# Altium footprint library 2020-09-03_20-14-04.PcbLib: 3 footprints
Each footprint in its own frame and in the unit in brackets; x right, y up, seen from the top. Pads: shape width x height; smd on the part's side, far side on the other; paste and mask are expansions set on the pad; w line width, h text height; cw(c..) or ccw(c..) is an arc to the next point about the centre after c.
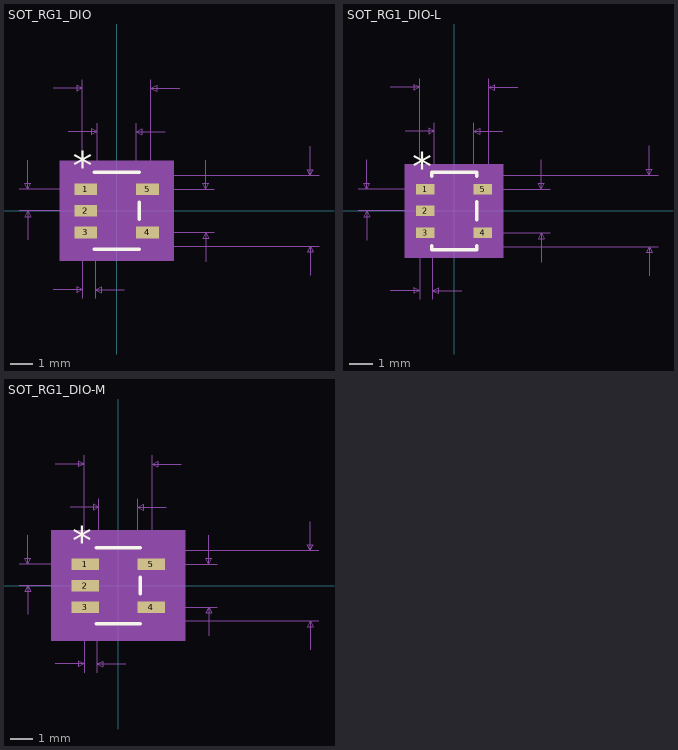
[diagram p0: the footprints below, top view; thin cyan lines are the x and y axes]

## SOT_RG1_DIO [mil]
pads (5):
  rect 39.5x20 smd paste+0 mask+0: 1(-53.25,37.4) 2(-53.25,0) 3(-53.25,-37.4) 4(53.25,-37.4) 5(53.25,37.4)
Top Overlay:
  lines w6: -38.5,-66 38.5,-66 ; -38.5,66 38.5,66 ; 38.5,-14.3 38.5,14.3
  text "*" at -75.75,52.4 h50
Mechanical 5:
  region: 98,-86 -98,-86 -98,86 98,86
Mechanical 7:
  lines w1: -168.25,0 -53.25,0 ; -168.25,37.4 -53.25,37.4 ; -153.25,-50 -153.25,0 ; -153.25,87.4 -153.25,37.4 ; -109,-136 -59,-136 ; -109,211 -59,211 ; -83.5,136 -33.5,136 ; -59,-151 -59,0 -59,226 ; -37,-151 -37,0 ; -33.5,0 -33.5,151 ; 0,-61 348.5,-61 ; 0,61 348.5,61 ; 13,-136 -37,-136 ; 33.5,0 33.5,151 ; 53.25,-37.4 168.25,-37.4 ; 53.25,37.4 168.25,37.4 ; 59,0 59,226 ; 83.5,136 33.5,136 ; 109,211 59,211 ; 153.25,-87.4 153.25,-37.4 ; 153.25,87.4 153.25,37.4 ; 333.5,-111 333.5,-61 ; 333.5,111 333.5,61 ; -153.25,0 -158.25,-10 -148.25,-10 -153.25,0 ; -153.25,37.4 -158.25,47.4 -148.25,47.4 -153.25,37.4 ; -59,-136 -69,-131 -69,-141 -59,-136 ; -59,211 -69,216 -69,206 -59,211 ; -37,-136 -27,-131 -27,-141 -37,-136 ; -33.5,136 -43.5,141 -43.5,131 -33.5,136 ; 33.5,136 43.5,141 43.5,131 33.5,136 ; 59,211 69,216 69,206 59,211 ; 153.25,-37.4 148.25,-47.4 158.25,-47.4 153.25,-37.4 ; 153.25,37.4 148.25,47.4 158.25,47.4 153.25,37.4 ; 333.5,-61 328.5,-71 338.5,-71 333.5,-61 ; 333.5,61 328.5,71 338.5,71 333.5,61
  text "Pin One Padstyle: RX39p5Y20D0T" at -375,-321 h50
  text "Default Padstyle: RX39p5Y20D0T" at -375,-261 h50
  text "Alt 1 Padstyle: OX60Y90D30P" at -337.5,-501 h50
  text "Alt 2 Padstyle: OX90Y60D30P" at -337.5,-561 h50
  text "0.067in/1.702mm" at -93.75,156 h25
  text "0.118in/2.997mm" at -93.75,231 h25
  text "0.122in/3.099mm" at 353.5,-12.5 h25
  text "0.037in/0.95mm" at -348.25,6.2 h25
  text "0.075in/1.9mm" at 173.25,-12.5 h25
  text "0.022in/0.559mm" at -141.75,-181 h25
Mechanical 13:
  lines w0: -12,61 ccw(c0,61) 12,61
  lines w1: -59,-47.4 -59,-27.4 -33.5,-27.4 -33.5,-47.4 -59,-47.4 ; -59,-10 -59,10 -33.5,10 -33.5,-10 -59,-10 ; -59,27.4 -59,47.4 -33.5,47.4 -33.5,27.4 -59,27.4 ; -33.5,-61 33.5,-61 33.5,61 -33.5,61 -33.5,-61 ; 33.5,-47.4 33.5,-27.4 59,-27.4 59,-47.4 33.5,-47.4 ; 33.5,27.4 33.5,47.4 59,47.4 59,27.4 33.5,27.4
  text "*" at -36,9.4 h50
Mechanical 15:
  region: 43.5,-71 -43.5,-71 -43.5,-52.4 -79,-52.4 -79,52.4 -43.5,52.4 -43.5,71 43.5,71 43.5,52.4 79,52.4 79,-52.4 43.5,-52.4
  lines w6: -79,-52.4 -43.5,-52.4 -43.5,-71 43.5,-71 43.5,-52.4 79,-52.4 79,52.4 43.5,52.4 43.5,71 -43.5,71 -43.5,52.4 -79,52.4 -79,-52.4
3D body: height 10, standoff 0, extent 0,0 10,10

## SOT_RG1_DIO-L [mil]
pads (5):
  rect 31.5x18 smd paste+0 mask+0: 1(-49.25,37.4) 2(-49.25,0) 3(-49.25,-37.4) 4(49.25,-37.4) 5(49.25,37.4)
Top Overlay:
  lines w6: -38.5,-59.5 -38.5,-66 38.5,-66 38.5,-59.5 ; -38.5,59.5 -38.5,66 38.5,66 38.5,59.5 ; 38.5,-15.3 38.5,15.3
  text "*" at -71.75,50.4 h50
Mechanical 5:
  region: 84,-80 -84,-80 -84,80 84,80
Mechanical 7:
  lines w1: -164.25,0 -49.25,0 ; -164.25,37.4 -49.25,37.4 ; -149.25,-50 -149.25,0 ; -149.25,87.4 -149.25,37.4 ; -109,-136 -59,-136 ; -109,211 -59,211 ; -83.5,136 -33.5,136 ; -59,-151 -59,0 -59,226 ; -37,-151 -37,0 ; -33.5,0 -33.5,151 ; 0,-61 348.5,-61 ; 0,61 348.5,61 ; 13,-136 -37,-136 ; 33.5,0 33.5,151 ; 49.25,-37.4 164.25,-37.4 ; 49.25,37.4 164.25,37.4 ; 59,0 59,226 ; 83.5,136 33.5,136 ; 109,211 59,211 ; 149.25,-87.4 149.25,-37.4 ; 149.25,87.4 149.25,37.4 ; 333.5,-111 333.5,-61 ; 333.5,111 333.5,61 ; -149.25,0 -154.25,-10 -144.25,-10 -149.25,0 ; -149.25,37.4 -154.25,47.4 -144.25,47.4 -149.25,37.4 ; -59,-136 -69,-131 -69,-141 -59,-136 ; -59,211 -69,216 -69,206 -59,211 ; -37,-136 -27,-131 -27,-141 -37,-136 ; -33.5,136 -43.5,141 -43.5,131 -33.5,136 ; 33.5,136 43.5,141 43.5,131 33.5,136 ; 59,211 69,216 69,206 59,211 ; 149.25,-37.4 144.25,-47.4 154.25,-47.4 149.25,-37.4 ; 149.25,37.4 144.25,47.4 154.25,47.4 149.25,37.4 ; 333.5,-61 328.5,-71 338.5,-71 333.5,-61 ; 333.5,61 328.5,71 338.5,71 333.5,61
  text "Pin One Padstyle: RX31p5Y18D0T" at -375,-321 h50
  text "Default Padstyle: RX31p5Y18D0T" at -375,-261 h50
  text "Alt 1 Padstyle: OX60Y90D30P" at -337.5,-501 h50
  text "Alt 2 Padstyle: OX90Y60D30P" at -337.5,-561 h50
  text "0.067in/1.702mm" at -93.75,156 h25
  text "0.118in/2.997mm" at -93.75,231 h25
  text "0.122in/3.099mm" at 353.5,-12.5 h25
  text "0.037in/0.95mm" at -344.25,6.2 h25
  text "0.075in/1.9mm" at 169.25,-12.5 h25
  text "0.022in/0.559mm" at -141.75,-181 h25
Mechanical 13:
  lines w0: -12,61 ccw(c0,61) 12,61
  lines w1: -59,-47.4 -59,-27.4 -33.5,-27.4 -33.5,-47.4 -59,-47.4 ; -59,-10 -59,10 -33.5,10 -33.5,-10 -59,-10 ; -59,27.4 -59,47.4 -33.5,47.4 -33.5,27.4 -59,27.4 ; -33.5,-61 33.5,-61 33.5,61 -33.5,61 -33.5,-61 ; 33.5,-47.4 33.5,-27.4 59,-27.4 59,-47.4 33.5,-47.4 ; 33.5,27.4 33.5,47.4 59,47.4 59,27.4 33.5,27.4
  text "*" at -36,7.4 h50
Mechanical 15:
  region: 37.5,-65 -37.5,-65 -37.5,-43.4 -67,-43.4 -67,43.4 -37.5,43.4 -37.5,65 37.5,65 37.5,43.4 67,43.4 67,-43.4 37.5,-43.4
  lines w6: -67,-43.4 -37.5,-43.4 -37.5,-65 37.5,-65 37.5,-43.4 67,-43.4 67,43.4 37.5,43.4 37.5,65 -37.5,65 -37.5,43.4 -67,43.4 -67,-43.4
3D body: height 10, standoff 0, extent 0,0 10,10

## SOT_RG1_DIO-M [mil]
pads (5):
  rect 47.5x20 smd paste+0 mask+0: 1(-57.25,37.4) 2(-57.25,0) 3(-57.25,-37.4) 4(57.25,-37.4) 5(57.25,37.4)
Top Overlay:
  lines w6: -38.5,-66 38.5,-66 ; -38.5,66 38.5,66 ; 38.5,-14.3 38.5,14.3
  text "*" at -79.75,52.4 h50
Mechanical 5:
  region: 116,-96 -116,-96 -116,96 116,96
Mechanical 7:
  lines w1: -172.25,0 -57.25,0 ; -172.25,37.4 -57.25,37.4 ; -157.25,-50 -157.25,0 ; -157.25,87.4 -157.25,37.4 ; -109,-136 -59,-136 ; -109,211 -59,211 ; -83.5,136 -33.5,136 ; -59,-151 -59,0 -59,226 ; -37,-151 -37,0 ; -33.5,0 -33.5,151 ; 0,-61 348.5,-61 ; 0,61 348.5,61 ; 13,-136 -37,-136 ; 33.5,0 33.5,151 ; 57.25,-37.4 172.25,-37.4 ; 57.25,37.4 172.25,37.4 ; 59,0 59,226 ; 83.5,136 33.5,136 ; 109,211 59,211 ; 157.25,-87.4 157.25,-37.4 ; 157.25,87.4 157.25,37.4 ; 333.5,-111 333.5,-61 ; 333.5,111 333.5,61 ; -157.25,0 -162.25,-10 -152.25,-10 -157.25,0 ; -157.25,37.4 -162.25,47.4 -152.25,47.4 -157.25,37.4 ; -59,-136 -69,-131 -69,-141 -59,-136 ; -59,211 -69,216 -69,206 -59,211 ; -37,-136 -27,-131 -27,-141 -37,-136 ; -33.5,136 -43.5,141 -43.5,131 -33.5,136 ; 33.5,136 43.5,141 43.5,131 33.5,136 ; 59,211 69,216 69,206 59,211 ; 157.25,-37.4 152.25,-47.4 162.25,-47.4 157.25,-37.4 ; 157.25,37.4 152.25,47.4 162.25,47.4 157.25,37.4 ; 333.5,-61 328.5,-71 338.5,-71 333.5,-61 ; 333.5,61 328.5,71 338.5,71 333.5,61
  text "Pin One Padstyle: RX47p5Y20D0T" at -375,-321 h50
  text "Default Padstyle: RX47p5Y20D0T" at -375,-261 h50
  text "Alt 1 Padstyle: OX60Y90D30P" at -337.5,-501 h50
  text "Alt 2 Padstyle: OX90Y60D30P" at -337.5,-561 h50
  text "0.067in/1.702mm" at -93.75,156 h25
  text "0.118in/2.997mm" at -93.75,231 h25
  text "0.122in/3.099mm" at 353.5,-12.5 h25
  text "0.037in/0.95mm" at -352.25,6.2 h25
  text "0.075in/1.9mm" at 177.25,-12.5 h25
  text "0.022in/0.559mm" at -141.75,-181 h25
Mechanical 13:
  lines w0: -12,61 ccw(c0,61) 12,61
  lines w1: -59,-47.4 -59,-27.4 -33.5,-27.4 -33.5,-47.4 -59,-47.4 ; -59,-10 -59,10 -33.5,10 -33.5,-10 -59,-10 ; -59,27.4 -59,47.4 -33.5,47.4 -33.5,27.4 -59,27.4 ; -33.5,-61 33.5,-61 33.5,61 -33.5,61 -33.5,-61 ; 33.5,-47.4 33.5,-27.4 59,-27.4 59,-47.4 33.5,-47.4 ; 33.5,27.4 33.5,47.4 59,47.4 59,27.4 33.5,27.4
  text "*" at -36,9.4 h50
Mechanical 15:
  region: 53.5,-81 -53.5,-81 -53.5,-67.4 -99,-67.4 -99,67.4 -53.5,67.4 -53.5,81 53.5,81 53.5,67.4 99,67.4 99,-67.4 53.5,-67.4
  lines w6: -99,-67.4 -53.5,-67.4 -53.5,-81 53.5,-81 53.5,-67.4 99,-67.4 99,67.4 53.5,67.4 53.5,81 -53.5,81 -53.5,67.4 -99,67.4 -99,-67.4
3D body: height 10, standoff 0, extent 0,0 10,10